# EAGLE library part PRTR5V0U4D (library BMS)
PRTR5V0U4D ESD PROTECTION
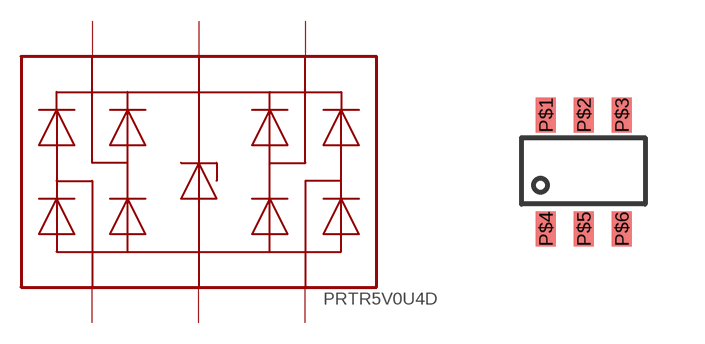
[diagram p1: symbol with the pads of TSOP6; footprint TSOP6]

Designator prefix -

## PRTR5V0U4D  [TSOP6]
P$1  PIN1
P$2  PIN2
P$3  PIN3
P$4  PIN4
P$5  PIN5
P$6  PIN6

## Footprint TSOP6 (pad centres in mm)
smd 0.5 x 0.88: P$1 0.25,3.3; P$2 1.2,3.3; P$3 2.15,3.3; P$4 0.25,0.45; P$5 1.2,0.45; P$6 2.15,0.45